# EAGLE library part 74HC4017 (library KwanSystems)
Decade counter/divider
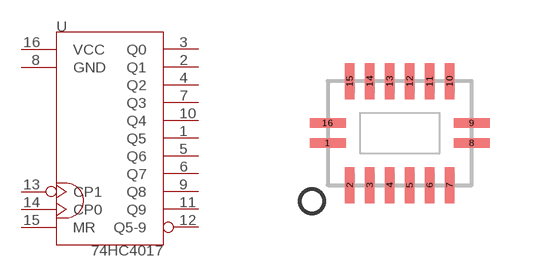
[diagram p32: symbol with the pads of DHVQFN16; footprint DHVQFN16]

Designator prefix -

## 74HC4017  [DHVQFN16]
1  Q5  out
2  Q1  out
3  Q0  out
4  Q2  out
5  Q6  out
6  Q7  out
7  Q3  out
8  GND  pwr
9  Q8  out
10  Q4  out
11  Q9  out
12  Q5-9  out
13  CP1  in
14  CP0  in
15  MR  in
16  VCC  pwr

## Footprint DHVQFN16 (pad centres in mm)
smd 0.9 x 0.24: 1 -1.8,-0.25; 8 1.8,-0.25; 9 1.8,0.25; 16 -1.8,0.25
smd 0.24 x 0.9: 2 -1.25,-1.3; 3 -0.75,-1.3; 4 -0.25,-1.3; 5 0.25,-1.3; 6 0.75,-1.3; 7 1.25,-1.3; 10 1.25,1.3; 11 0.75,1.3; 12 0.25,1.3; 13 -0.25,1.3; 14 -0.75,1.3; 15 -1.25,1.3